# Altium integrated library DB3.IntLib: 1 symbol
Pins are listed as number, name and electrical type; pins without a type are passive.

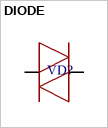
[diagram p0: symbol DIODE]

## DIODE
designator VD?
footprint DB3
pins: 1 C, 2 A